# Altium footprint library PcbLib2.PcbLib: 24 footprints (part 2 of 2)
Each footprint in its own frame and in the unit in brackets; x right, y up, seen from the top. Pads: shape width x height; smd on the part's side, far side on the other; paste and mask are expansions set on the pad; w line width, h text height; cw(c..) or ccw(c..) is an arc to the next point about the centre after c.
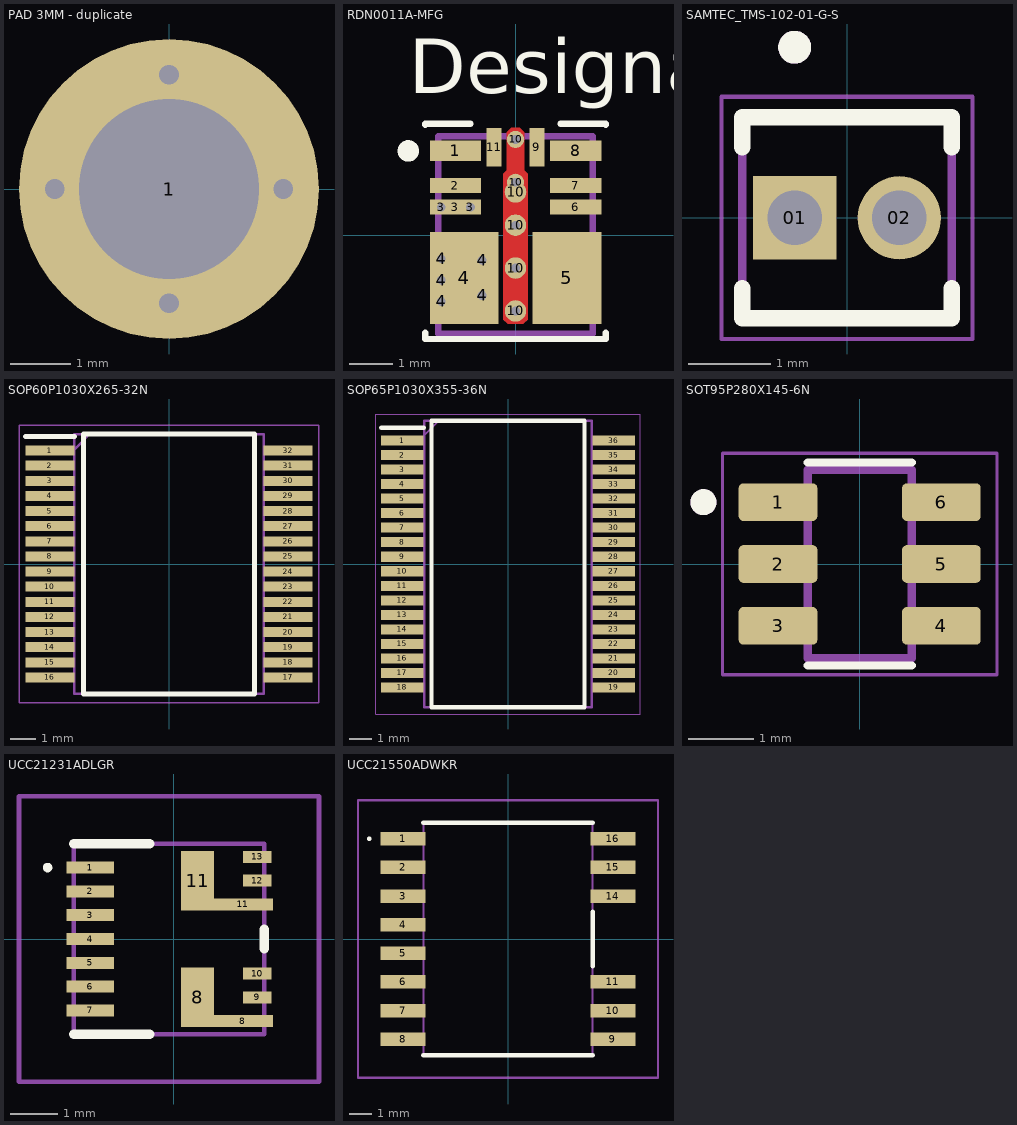
[diagram p1: the footprints below, top view; thin cyan lines are the x and y axes]

## PAD 3MM - duplicate [mm]
pads (1):
  round 5 hole 3 paste+0 mask+0.2: 1(0,0)
via -1.905,0 diameter 0.635 hole 0.33
via 1.905,0 diameter 0.635 hole 0.33
via 0,1.905 diameter 0.635 hole 0.33
via 0,-1.905 diameter 0.635 hole 0.33

## RDN0011A-MFG [mm]
pads (24):
  rect 1.2x0.475 smd paste-0.587 mask-0.584: 1(-1.4,1.962) 8(1.4,1.962)
  rect 1.2x0.35 smd paste-0.587 mask-0.584: 2(-1.4,1.15) 3(-1.4,0.65) 6(1.4,0.65) 7(1.4,1.15)
  round 0.35 / inner round 1.524 / far side round 0.35 hole 0.203 paste-2539.97 mask-0.165: 3(-1.73,0.65) 3(-1.05,0.65)
  round 0.5 / inner round 1.524 / far side round 0.5 hole 0.203 paste-2539.97 mask-0.241: 4(-1.73,-1.55) 4(-1.73,-1.05) 4(-1.73,-0.55) 4(-0.78,-1.41) 4(-0.78,-0.59) 10(0,-1.77) 10(0,-0.77) 10(0,0.23)
  rect 1.6x2.15 smd paste-1.062 mask-1.067: 4(-1.2,-1) 5(1.2,-1)
  rect 0.35x0.9 smd paste-0.437 mask-0.432: 9(0.5,2.05) 11(-0.5,2.05)
  round 0.025 smd: 10(0,0.212)
  round 0.504 smd paste-0.239 mask-0.241: 10(0,1.005)
  round 0.4 / inner round 1.524 / far side round 0.4 hole 0.203 paste-2539.97 mask-0.191: 10(0,1.23) 10(0,2.23)
Top Layer:
  region: -0.2,1.515 -0.2,2.4 -0.1,2.5 0.1,2.5 0.2,2.4 0.2,1.515 0.24,1.475 0.28,1.435 0.28,-1.975 0.18,-2.075 -0.18,-2.075 -0.28,-1.975 -0.28,1.435 -0.24,1.475
Top Overlay:
  circle w0.25: c-2.5,1.962 r0.125
  lines w0.15: -2.1,-2.275 -2.1,-2.425 2.1,-2.425 2.1,-2.275 ; -2.1,2.575 -2.1,2.6 -1.05,2.6 ; 1.05,2.6 2.1,2.6 2.1,2.575
  text "Designator46" at -2.489,3.302 h1.27
Top Paste:
  drawing of 23 lines, arcs and shapes, not listed
Top Solder:
  drawing of 11 lines, arcs and shapes, not listed
Mechanical 13:
  lines w0.15: -1.8,-2.3 1.8,-2.3 1.8,2.3 -1.8,2.3 -1.8,-2.3

## SAMTEC_TMS-102-01-G-S [mm]
pads (2):
  rect 1.01x1.01 hole 0.66: 01(-0.635,0)
  round 1.01 hole 0.66: 02(0.635,0)
Top Overlay:
  circle w0.2: c-0.635,2.069 r0.1
  lines w0.2: -1.27,-0.855 -1.27,-1.219 1.27,-1.219 1.27,-0.855 ; -1.27,0.855 -1.27,1.219 1.27,1.219 1.27,0.855
Mechanical 13:
  circle w0.2: c-0.635,2.069 r0.1
  lines w0.1: -1.27,-1.219 1.27,-1.219 1.27,1.219 -1.27,1.219 -1.27,-1.219
Mechanical 15:
  lines w0.05: -1.52,-1.469 -1.52,1.469 1.52,1.469 1.52,-1.469 -1.52,-1.469

## SOP60P1030X265-32N [mm]
pads (32):
  rect 1.95x0.4 smd: 1(-4.725,4.5) 2(-4.725,3.9) 3(-4.725,3.3) 4(-4.725,2.7) 5(-4.725,2.1) 6(-4.725,1.5) 7(-4.725,0.9) 8(-4.725,0.3) 9(-4.725,-0.3) 10(-4.725,-0.9) 11(-4.725,-1.5) 12(-4.725,-2.1) 13(-4.725,-2.7) 14(-4.725,-3.3) 15(-4.725,-3.9) 16(-4.725,-4.5) 17(4.725,-4.5) 18(4.725,-3.9) 19(4.725,-3.3) 20(4.725,-2.7) 21(4.725,-2.1) 22(4.725,-1.5) 23(4.725,-0.9) 24(4.725,-0.3) 25(4.725,0.3) 26(4.725,0.9) 27(4.725,1.5) 28(4.725,2.1) 29(4.725,2.7) 30(4.725,3.3) 31(4.725,3.9) 32(4.725,4.5)
Top Overlay:
  lines w0.2: -5.7,5.05 -3.75,5.05 ; -3.4,-5.15 3.4,-5.15 3.4,5.15 -3.4,5.15 -3.4,-5.15
Mechanical 13:
  lines w0.1: -3.75,4.55 -3.15,5.15 ; -3.75,-5.15 3.75,-5.15 3.75,5.15 -3.75,5.15 -3.75,-5.15
Mechanical 15:
  lines w0.05: -5.95,-5.5 5.95,-5.5 5.95,5.5 -5.95,5.5 -5.95,-5.5
3D body "UCC5880QDFCRQ1.stp": height 2.65, standoff 0, extent -5.15,-5.15 5.15,5.15

## SOP65P1030X355-36N [mm]
pads (36):
  rect 1.9x0.45 smd: 1(-4.725,5.525) 2(-4.725,4.875) 3(-4.725,4.225) 4(-4.725,3.575) 5(-4.725,2.925) 6(-4.725,2.275) 7(-4.725,1.625) 8(-4.725,0.975) 9(-4.725,0.325) 10(-4.725,-0.325) 11(-4.725,-0.975) 12(-4.725,-1.625) 13(-4.725,-2.275) 14(-4.725,-2.925) 15(-4.725,-3.575) 16(-4.725,-4.225) 17(-4.725,-4.875) 18(-4.725,-5.525) 19(4.725,-5.525) 20(4.725,-4.875) 21(4.725,-4.225) 22(4.725,-3.575) 23(4.725,-2.925) 24(4.725,-2.275) 25(4.725,-1.625) 26(4.725,-0.975) 27(4.725,-0.325) 28(4.725,0.325) 29(4.725,0.975) 30(4.725,1.625) 31(4.725,2.275) 32(4.725,2.925) 33(4.725,3.575) 34(4.725,4.225) 35(4.725,4.875) 36(4.725,5.525)
Top Overlay:
  lines w0.2: -5.675,6.1 -3.775,6.1 ; -3.425,-6.415 3.425,-6.415 3.425,6.415 -3.425,6.415 -3.425,-6.415
Mechanical 13:
  lines w0.1: -3.75,5.765 -3.1,6.415 ; -3.75,-6.415 3.75,-6.415 3.75,6.415 -3.75,6.415 -3.75,-6.415
Mechanical 15:
  lines w0.05: -5.925,-6.715 5.925,-6.715 5.925,6.715 -5.925,6.715 -5.925,-6.715
3D body "UCC14240.stp": height 3.55, standoff 0, extent -5.15,-6.415 5.15,6.415

## SOT95P280X145-6N [mm]
height 1.45
pads (6):
  rrect25% 1.21x0.58 smd mask+0.05: 1(-1.255,0.95) 2(-1.255,0) 3(-1.255,-0.95) 4(1.255,-0.95) 5(1.255,0) 6(1.255,0.95)
Top Overlay:
  circle w0.2: c-2.4,0.95 r0.1
  lines w0.127: -0.8,-1.56 0.8,-1.56 ; -0.8,1.56 0.8,1.56
Mechanical 13:
  circle w0.2: c-2.4,0.95 r0.1
  lines w0.127: -0.8,-1.45 0.8,-1.45 0.8,1.45 -0.8,1.45 -0.8,-1.45
Mechanical 15:
  lines w0.05: -2.11,-1.7 2.11,-1.7 2.11,1.7 -2.11,1.7 -2.11,-1.7
3D body "DBV0006A.stp": height 1.2, standoff 0, extent -1.4,-1.45 1.4,1.45

## UCC21231ADLGR [mm]
pads (15):
  rect 1x0.25 smd: 1(-1.75,1.5) 2(-1.75,1) 3(-1.75,0.5) 4(-1.75,0) 5(-1.75,-0.5) 6(-1.75,-1) 7(-1.75,-1.5)
  rect 0.7x1.25 smd: 8(0.5,-1.225) 11(0.5,1.225)
  rect 1.276x0.25 smd: 8(1.45,-1.725)
  rect 0.6x0.25 smd: 9(1.75,-1.225) 10(1.75,-0.725) 12(1.75,1.225) 13(1.75,1.725)
  rect 1.27x0.25 smd: 11(1.45,0.725)
Top Overlay:
  lines w0.1: -2.7,1.5 ccw(c-2.65,1.5) -2.6,1.5 ccw(c-2.65,1.5) -2.7,1.5
  lines w0.2: -2.1,-2 -0.5,-2 ; -2.1,2 -0.5,2 ; 1.9,-0.2 1.9,0.2
Mechanical 13:
  lines w0.1: -2.1,-2 -2.1,2 1.9,2 1.9,-2 -2.1,-2
Mechanical 15:
  lines w0.1: -3.25,-3 -3.25,3 3.05,3 3.05,-3 -3.25,-3
3D body "UCC21231ADLGR.stp": height 0.71, standoff 0, extent -2.16,-2.05 1.96,2.05

## UCC21550ADWKR [mm]
pads (14):
  rect 2x0.6 smd: 1(-4.65,4.445) 2(-4.65,3.175) 3(-4.65,1.905) 4(-4.65,0.635) 5(-4.65,-0.635) 6(-4.65,-1.905) 7(-4.65,-3.175) 8(-4.65,-4.445) 9(4.65,-4.445) 10(4.65,-3.175) 11(4.65,-1.905) 14(4.65,1.905) 15(4.65,3.175) 16(4.65,4.445)
Top Overlay:
  lines w0.1: -6.2,4.445 ccw(c-6.15,4.445) -6.1,4.445 ccw(c-6.15,4.445) -6.2,4.445
  lines w0.2: -3.75,-5.15 3.75,-5.15 ; -3.75,5.15 3.75,5.15 ; 3.75,-1.2 3.75,1.2
Mechanical 13:
  lines w0.1: -3.75,-5.15 -3.75,5.15 3.75,5.15 3.75,-5.15 -3.75,-5.15
Mechanical 15:
  lines w0.1: -6.65,-6.15 -6.65,6.15 6.65,6.15 6.65,-6.15 -6.65,-6.15
3D body "UCC21550ADWKR.stp": height 2.75, standoff 0, extent -3.75,-5.15 3.75,5.15